# EAGLE library part POLOLU-AITMU-10V4 (library HElicopterLib)
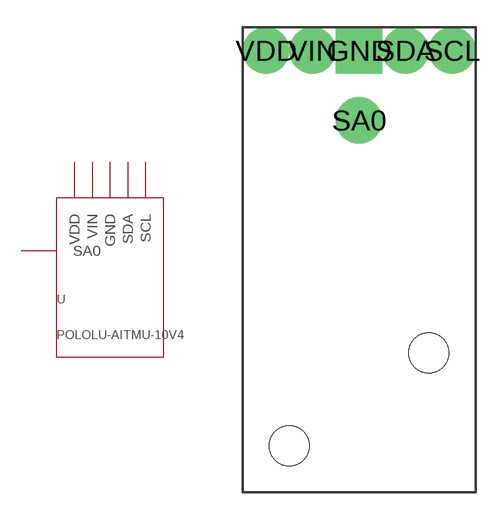
[diagram p0: symbol with the pads of POLOLU-AITMU-10V4; footprint POLOLU-AITMU-10V4]

Designator prefix -

## POLOLU-AITMU-10V4  [POLOLU-AITMU-10V4]
GND  GND  pwr
SA0  SA0
SCL  SCL
SDA  SDA
VDD  VDD  pwr
VIN  VIN  pwr

## Footprint POLOLU-AITMU-10V4 (pad centres in mm)
drill 1.2 pad 2.54 square: GND -1.27,-1.27
drill 1.2 pad 2.54: SA0 -1.27,-5.08; SCL 3.81,-1.27; SDA 1.27,-1.27; VDD -6.35,-1.27; VIN -3.81,-1.27
hole 2.184 at -5.08,-22.86
hole 2.184 at 2.54,-17.78